# Altium footprint library a3.PcbLib: 56 footprints (part 2 of 4)
Each footprint in its own frame and in the unit in brackets; x right, y up, seen from the top. Pads: shape width x height; smd on the part's side, far side on the other; paste and mask are expansions set on the pad; w line width, h text height; cw(c..) or ccw(c..) is an arc to the next point about the centre after c.
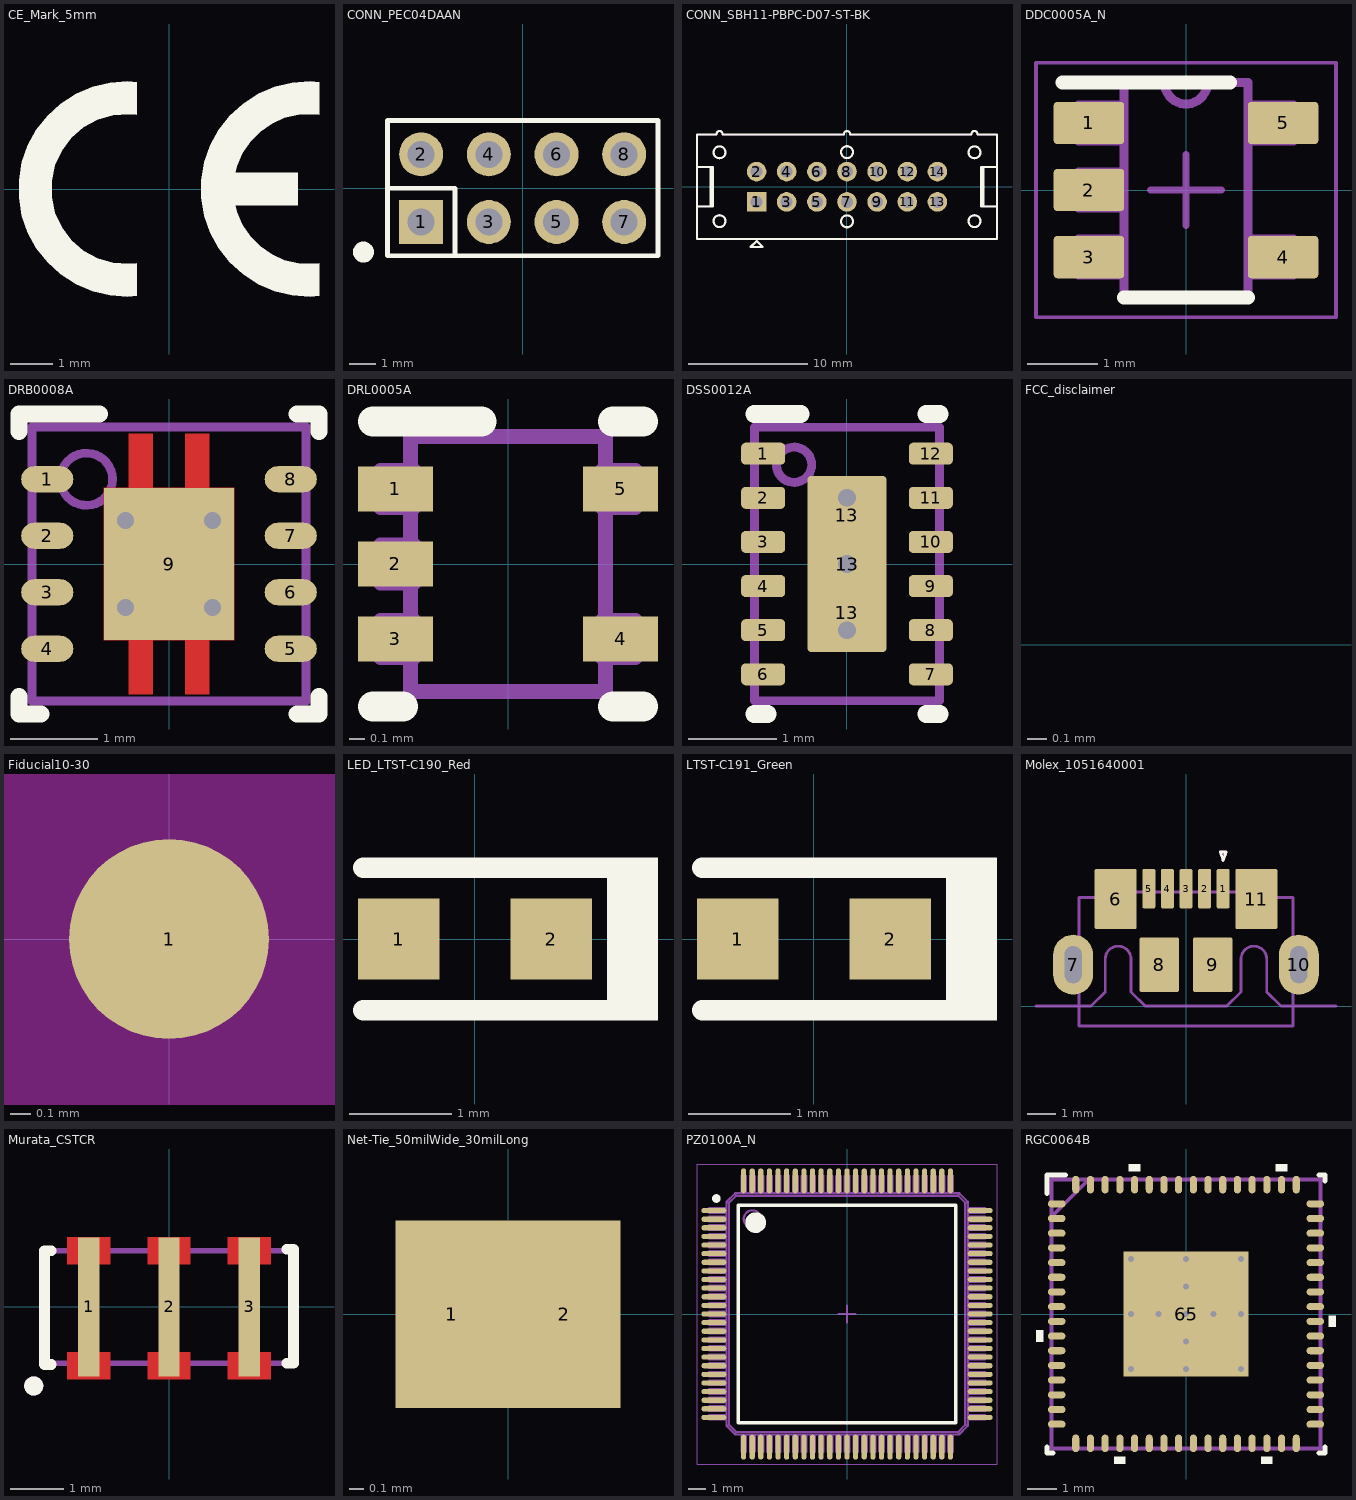
[diagram p1: the footprints below, top view; thin cyan lines are the x and y axes]

## CE_Mark_5mm [mm] "Minimum text height for CE Mark"
height 1
Top Overlay:
  region: -0.75,-2.487 -0.958,-2.508 -1.376,-2.48 -1.783,-2.383 -2.169,-2.22 -2.522,-1.994 -2.832,-1.714 -3.092,-1.385 -3.293,-1.018 -3.43,-0.622 -3.5,-0.209 -3.5,0.209 -3.43,0.622 -3.293,1.018 -3.092,1.385 -2.832,1.714 -2.522,1.994 -2.169,2.22 -1.783,2.383 -1.376,2.48 -0.958,2.508 -0.75,2.487 -0.75,1.732 -0.937,1.749 -1.31,1.722 -1.669,1.617 -1.998,1.438 -2.281,1.193 -2.505,0.893 -2.66,0.553 -2.74,0.187 -2.74,-0.187 -2.66,-0.553 -2.505,-0.893 -2.281,-1.193 -1.998,-1.438 -1.669,-1.617 -1.31,-1.722 -0.937,-1.749 -0.75,-1.732
  region: 3.5,-1.732 3.337,-1.748 3.01,-1.733 2.691,-1.658 2.392,-1.525 2.123,-1.339 1.894,-1.106 1.712,-0.834 1.583,-0.533 1.541,-0.375 3,-0.375 3,0.375 1.541,0.375 1.583,0.533 1.712,0.834 1.894,1.106 2.123,1.339 2.392,1.525 2.691,1.658 3.01,1.733 3.337,1.748 3.5,1.732 3.5,2.487 3.292,2.508 2.874,2.48 2.467,2.383 2.081,2.22 1.728,1.994 1.418,1.714 1.158,1.385 0.957,1.018 0.82,0.622 0.75,0.209 0.75,-0.209 0.82,-0.622 0.957,-1.018 1.158,-1.385 1.418,-1.714 1.728,-1.994 2.081,-2.22 2.467,-2.383 2.874,-2.48 3.292,-2.508 3.5,-2.487

## CONN_PEC04DAAN [mm] "SULLINS"
height 8.382
pads (8):
  rect 1.65x1.65 hole 1.016 mask+0: 1(-3.81,-1.27)
  round 1.65 hole 1.016 mask+0: 2(-3.81,1.27) 3(-1.27,-1.27) 4(-1.27,1.27) 5(1.27,-1.27) 6(1.27,1.27) 7(3.81,-1.27) 8(3.81,1.27)
Top Overlay:
  circle w0.381: c-5.98,-2.4 r0.203
  lines w0.178: -5.08,0 -2.54,0 -2.54,-2.54 ; -5.08,-2.54 5.08,-2.54 5.08,2.54 -5.08,2.54 -5.08,-2.54
Mechanical 5:
  rectangle: -4.318,-1.778 -3.302,-0.762
  lines w0.076: -5.08,-2.54 5.08,-2.54 5.08,2.54 -5.08,2.54 -5.08,-2.54
  lines w0.127: -5.08,-2.54 -5.08,2.54 5.08,2.54 5.08,-2.54 -5.08,-2.54
  text ".Designator" at -1.778,-0.508 h1.02
3D body: height 2.54, standoff 0, extent -5.079,-2.539 5.079,2.539
3D body: height 8.38, standoff -3.05, extent -4.127,-1.587 -3.492,-0.952
3D body: height 8.38, standoff -3.05, extent -4.127,0.953 -3.492,1.588
3D body: height 8.38, standoff -3.05, extent -1.587,0.953 -0.952,1.588
3D body: height 8.38, standoff -3.05, extent -1.587,-1.587 -0.952,-0.952
3D body: height 8.38, standoff -3.05, extent 0.953,-1.587 1.588,-0.952
3D body: height 8.38, standoff -3.05, extent 0.953,0.953 1.588,1.588
3D body: height 8.38, standoff -3.05, extent 3.493,-1.587 4.128,-0.952
3D body: height 8.38, standoff -3.05, extent 3.493,0.953 4.128,1.588

## CONN_SBH11-PBPC-D07-ST-BK [mm] "Sullins recommended land pattern"
height 8.8
pads (14):
  rect 1.65x1.65 hole 1.016 mask+0: 1(-7.62,-1.27)
  round 1.65 hole 1.016 mask+0: 2(-7.62,1.27) 3(-5.08,-1.27) 4(-5.08,1.27) 5(-2.54,-1.27) 6(-2.54,1.27) 7(0,-1.27) 8(0,1.27) 9(2.54,-1.27) 10(2.54,1.27) 11(5.08,-1.27) 12(5.08,1.27) 13(7.62,-1.27) 14(7.62,1.27)
Top Overlay:
  lines w0.178: -11.49,-1.65 -11.49,1.65 ; 11.49,-1.65 11.49,1.65 ; -12.64,-1.65 -12.64,1.65 ; -12.64,-1.65 -12.64,-4.4 12.64,-4.4 12.64,-1.65 ; -12.64,-1.65 -11.313,-1.65 -11.313,1.65 -12.64,1.65 ; -12.64,1.65 -12.64,4.4 -10.99,4.4 -10.99,4.45 cw(c-10.74,4.45) -10.49,4.45 -10.49,4.4 -0.25,4.4 -0.25,4.45 cw(c0,4.45) 0.25,4.45 0.25,4.4 10.49,4.4 10.49,4.45 cw(c10.74,4.45) 10.99,4.45 10.99,4.4 12.64,4.4 12.64,1.65 ; 12.64,-1.65 12.64,1.65 ; 12.64,-1.65 11.314,-1.65 11.314,1.65 12.64,1.65 ; -10.74,-3.4 ccw(c-10.74,-2.9) -10.74,-2.4 ccw(c-10.74,-2.9) -10.74,-3.4 ; -10.74,2.4 ccw(c-10.74,2.9) -10.74,3.4 ccw(c-10.74,2.9) -10.74,2.4 ; -8.128,-5.08 -7.62,-4.572 -7.112,-5.08 -8.128,-5.08 ; 0,-3.417 ccw(c0,-2.917) 0,-2.417 ccw(c0,-2.917) 0,-3.417 ; 0,2.417 ccw(c0,2.917) 0,3.417 ccw(c0,2.917) 0,2.417 ; 10.74,-3.4 ccw(c10.74,-2.9) 10.74,-2.4 ccw(c10.74,-2.9) 10.74,-3.4 ; 10.74,2.4 ccw(c10.74,2.9) 10.74,3.4 ccw(c10.74,2.9) 10.74,2.4
Mechanical 5:
  lines w0.127: -11.49,-1.65 -11.49,1.65 ; 11.49,-1.65 11.49,1.65 ; -12.64,-1.65 -11.313,-1.65 -11.313,1.65 -12.64,1.65 ; -12.64,-1.65 -12.64,-4.4 12.64,-4.4 12.64,-1.65 ; -12.64,-1.65 -12.64,1.65 ; -12.64,1.65 -12.64,4.4 -10.99,4.4 -10.99,4.45 cw(c-10.74,4.45) -10.49,4.45 -10.49,4.4 -0.25,4.4 -0.25,4.45 cw(c0,4.45) 0.25,4.45 0.25,4.4 10.49,4.4 10.49,4.45 cw(c10.74,4.45) 10.99,4.45 10.99,4.4 12.64,4.4 12.64,1.65 ; 12.64,-1.65 11.314,-1.65 11.314,1.65 12.64,1.65 ; 12.64,-1.65 12.64,1.65 ; -10.74,-3.4 cw(c-10.74,-2.9) -10.74,-2.4 cw(c-10.74,-2.9) -10.74,-3.4 ; -10.74,2.4 cw(c-10.74,2.9) -10.74,3.4 cw(c-10.74,2.9) -10.74,2.4 ; -8.128,-5.08 -7.112,-5.08 -7.62,-4.572 -8.128,-5.08 ; 0,-3.417 cw(c0,-2.917) 0,-2.417 cw(c0,-2.917) 0,-3.417 ; 0,2.417 cw(c0,2.917) 0,3.417 cw(c0,2.917) 0,2.417 ; 10.74,-3.4 cw(c10.74,-2.9) 10.74,-2.4 cw(c10.74,-2.9) 10.74,-3.4 ; 10.74,2.4 cw(c10.74,2.9) 10.74,3.4 cw(c10.74,2.9) 10.74,2.4
  text ".Designator" at -1.27,-0.127 h0.64
3D body "11091, SBH11-PBPC-D07-ST-BK.stp": height 9.12, standoff -2.68, extent -12.64,-4.4 12.64,4.7

## DDC0005A_N [mm]
height 1.1
pads (5):
  rrect17% 1x0.6 smd: 1(-1.375,0.95) 2(-1.375,0) 3(-1.375,-0.95) 4(1.375,-0.95) 5(1.375,0.95)
Top Overlay:
  lines w0.2: -1.75,1.525 0.625,1.525 ; -0.876,-1.524 0.876,-1.524
Mechanical 5:
  lines w0.127: -0.305,1.524 ccw(c0,1.524) 0.305,1.524 ; -1.524,-1.204 -0.876,-1.204 -0.876,-0.696 -1.524,-0.696 -1.524,-1.204 ; -1.524,-0.254 -0.876,-0.254 -0.876,0.254 -1.524,0.254 -1.524,-0.254 ; -1.524,0.696 -0.876,0.696 -0.876,1.204 -1.524,1.204 -1.524,0.696 ; -0.876,-1.524 -0.876,1.524 0.876,1.524 0.876,-1.524 -0.876,-1.524 ; 0.876,-1.204 1.524,-1.204 1.524,-0.696 0.876,-0.696 0.876,-1.204 ; 0.876,0.696 1.524,0.696 1.524,1.204 0.876,1.204 0.876,0.696
  text ".Designator" at 0,0.262 h0.64
Mechanical 15:
  lines w0.05: -2.125,-1.8 -2.125,1.8 2.125,1.8 2.125,-1.8 -2.125,-1.8
  lines w0.1: -0.5,0 0.5,0 ; 0,-0.5 0,0.5
3D body "DDC0005A.stp": height 1.1, standoff 0, extent -1.405,-1.45 1.406,1.45

## DRB0008A [mm] "SON, 8-Leads, Body 3x3mm, Pitch 0.65mm, Thermal Pad 1.75x1.5mm, TI Recommended"
height 1
pads (9):
  oval 0.6x0.3 smd: 1(-1.4,0.975) 2(-1.4,0.325) 3(-1.4,-0.325) 4(-1.4,-0.975) 5(1.4,-0.975) 6(1.4,-0.325) 7(1.4,0.325) 8(1.4,0.975)
  rect 1.5x1.75 smd paste-0.75: 9(0,0)
via 0.5,-0.5 diameter 0.5 hole 0.2
via -0.5,-0.5 diameter 0.5 hole 0.2
via -0.5,0.5 diameter 0.5 hole 0.2
via 0.5,0.5 diameter 0.5 hole 0.2
Top Layer:
  region: -0.465,-1.5 -0.465,-0.875 -0.75,-0.875 -0.75,0.875 -0.465,0.875 -0.465,1.5 -0.185,1.5 -0.185,0.875 0.185,0.875 0.185,1.5 0.465,1.5 0.465,0.875 0.75,0.875 0.75,-0.875 0.465,-0.875 0.465,-1.5 0.185,-1.5 0.185,-0.875 -0.185,-0.875 -0.185,-1.5
Top Overlay:
  lines w0.2: -1.725,-1.525 -1.725,-1.725 -1.475,-1.725 ; -1.725,1.525 -1.725,1.725 -0.8,1.725 ; 1.475,-1.725 1.725,-1.725 1.725,-1.525 ; 1.475,1.725 1.725,1.725 1.725,1.525
Top Paste:
  rectangle: -0.691,-0.792 0.692,0.793
Mechanical 5:
  circle w0.1: c-0.95,0.975 r0.3
  lines w0.1: -1.575,-1.575 1.575,-1.575 1.575,1.575 -1.575,1.575 -1.575,-1.575
  text ".Designator" at -0.889,-0.508 h0.51
3D body: height 1, standoff 0, extent -1.575,-1.575 1.575,1.575
3D body: height 1.01, standoff 0.8, extent -1.249,0.676 -0.651,1.274

## DRL0005A [mm] "SOTFL, 5-Flat Leads, Body 1.2x1.6x0.6mm, Pitch 0.5mm, TI recommended"
height 0.6
pads (5):
  rect 0.5x0.3 smd: 1(-0.75,0.5) 2(-0.75,0) 3(-0.75,-0.5) 4(0.75,-0.5) 5(0.75,0.5)
Top Overlay:
  lines w0.2: -0.9,-0.95 -0.7,-0.95 ; -0.9,0.95 -0.175,0.95 ; 0.7,-0.95 0.9,-0.95 ; 0.7,0.95 0.9,0.95
Mechanical 5:
  lines w0.1: -0.65,-0.625 -0.65,-0.85 0.65,-0.85 0.65,-0.625 ; -0.65,-0.375 -0.65,-0.125 ; -0.65,0.125 -0.65,0.375 ; -0.65,0.625 -0.65,0.85 0.65,0.85 0.65,0.625 ; 0.65,-0.375 0.65,0.375 ; -0.85,-0.625 -0.627,-0.625 -0.627,-0.375 -0.85,-0.375 -0.85,-0.625 ; -0.85,-0.125 -0.85,0.125 -0.627,0.125 -0.627,-0.125 -0.85,-0.125 ; -0.85,0.375 -0.627,0.375 -0.627,0.625 -0.85,0.625 -0.85,0.375 ; 0.627,-0.625 0.85,-0.625 0.85,-0.375 0.627,-0.375 0.627,-0.625 ; 0.627,0.375 0.85,0.375 0.85,0.625 0.627,0.625 0.627,0.375
  text ".Designator" at 0.254,-0.85 h0.38
3D body "DRL0005A.stp": height 0.62, standoff 0.02, extent -0.85,-0.85 0.85,0.85

## DSS0012A [mm] "SON, 12-Leads, Body 2x3mm, Pitch 0.5mm, Thermal Pad 2x0.9mm, TI Recommended"
height 0.8
pads (15):
  rrect40% 0.5x0.25 smd: 1(-0.95,1.25) 2(-0.95,0.75) 3(-0.95,0.25) 4(-0.95,-0.25) 5(-0.95,-0.75) 6(-0.95,-1.25) 7(0.95,-1.25) 8(0.95,-0.75) 9(0.95,-0.25) 10(0.95,0.25) 11(0.95,0.75) 12(0.95,1.25)
  rrect50% 0.9x0.9 on Top Paste: 13(0,-0.55) 13(0,0.55)
  rrect11% 0.9x2 smd paste-0.45: 13(0,0)
via 0,0 diameter 0.5 hole 0.2
via 0,0.75 diameter 0.5 hole 0.2
via 0,-0.75 diameter 0.5 hole 0.2
Top Overlay:
  lines w0.2: -1.05,-1.7 -0.9,-1.7 ; -1.05,1.7 -0.525,1.7 ; 0.9,-1.7 1.05,-1.7 ; 0.9,1.7 1.05,1.7
Mechanical 5:
  circle w0.1: c-0.6,1.125 r0.2
  lines w0.1: -1.05,-1.55 1.05,-1.55 1.05,1.55 -1.05,1.55 -1.05,-1.55
  text ".Designator" at 0.381,0.254 h0.64
3D body "DSS0012A.stp": height 0.8, standoff 0, extent -1,-1.5 1,1.5

## FCC_disclaimer [mm]
Top Overlay:
  text "For evaluation only; not FCC approved for resale." at -15.928,-0.353 h1.52

## Fiducial10-30 [mm]
height 1
pads (1):
  round 1 smd mask+1: 1(0,0)
Top Layer keep-out:
  circle w1.678: c0,0 r0.75

## LED_LTST-C190_Red [mm] "Lite-On"
height 0.9
pads (2):
  rect 0.8x0.8 smd: 1(-0.75,0) 2(0.75,0)
Top Overlay:
  region: 1.8,0.8 1.3,0.8 1.3,-0.8 1.8,-0.8
  lines w0.2: -1.1,-0.7 1.4,-0.7 ; -1.1,0.7 1.4,0.7
Mechanical 5:
  region: 1.8,0.75 1.3,0.75 1.3,-0.75 1.8,-0.75
  lines w0.1: -1.1,-0.7 1.4,-0.7 ; -1.1,0.7 1.4,0.7
  text ".Designator" at 0.635,0.121 h0.64
3D body "Lite-On_LTST_C190_red.stp": height 0.9, standoff 0, extent -0.85,-0.45 0.85,0.45

## LTST-C191_Green [mm] "Lite-On"
height 0.65
pads (2):
  rect 0.8x0.8 smd: 1(-0.75,0) 2(0.75,0)
Top Overlay:
  region: 1.8,0.8 1.3,0.8 1.3,-0.8 1.8,-0.8
  lines w0.2: -1.1,-0.7 1.4,-0.7 ; -1.1,0.7 1.4,0.7
Mechanical 5:
  region: 1.8,0.75 1.3,0.75 1.3,-0.75 1.8,-0.75
  lines w0.1: -1.1,-0.7 1.4,-0.7 ; -1.1,0.7 1.4,0.7
  text ".Designator" at 0.635,0.248 h0.64
3D body: height 0.2, standoff 0, extent -0.849,-0.449 0.849,0.449
3D body: height 0.65, standoff 0.2, extent -0.624,-0.449 0.624,0.449

## Molex_1051640001 [mm] "Receptacle, USB 2.0, Micro B, 5 Pos, 0.65mm Pitch, R/A, SMT"
height 2.7
pads (11):
  rrect22% 0.45x1.38 smd: 1(1.3,4.11) 2(0.65,4.11) 3(0,4.11) 4(-0.65,4.11) 5(-1.3,4.11)
  rrect7% 1.475x2.1 smd: 6(-2.462,3.75) 11(2.462,3.75)
  rrect100% 1.4x2.1 hole 0.6 slot 1.3 at 90 deg: 7(-3.95,1.45) 10(3.95,1.45)
  rrect7% 1.375x1.9 smd: 8(-0.937,1.45) 9(0.937,1.45)
Top Overlay:
  lines w0.1: 1.2,5.4 1.4,5.4 1.3,5.1 1.2,5.4
Mechanical 1:
  lines w0.1: -5.25,0 -3.325,0 -2.825,0.5 -2.825,1.65 cw(c-2.375,1.65) -1.925,1.65 -1.925,0.5 -1.425,0 -1.4,0 1.4,0 1.425,0 1.925,0.5 1.925,1.65 cw(c2.375,1.65) 2.825,1.65 2.825,0.5 3.325,0 5.25,0
Mechanical 5:
  lines w0.1: -3.75,1 -3.871,1 -4.1,1 -4.1,1.9 -3.871,1.9 -3.75,1.9 ; -1.425,4 -1.425,4.467 -1.175,4.467 -1.175,4 ; -0.775,4 -0.775,4.467 -0.525,4.467 -0.525,4 ; -0.125,4 -0.125,4.467 0.125,4.467 0.125,4 ; 0.525,4 0.525,4.467 0.775,4.467 0.775,4 ; 1.175,4 1.175,4.467 1.425,4.467 1.425,4 ; 3.75,1 3.871,1 4.1,1 4.1,1.9 3.871,1.9 3.75,1.9 ; -3.75,-0.7 -3.75,3.8 -3.633,3.8 -3.089,3.8 -3,3.8 -3,4 -2.806,4 2.806,4 3,4 3,3.8 3.089,3.8 3.633,3.8 3.75,3.8 3.75,-0.7 3.633,-0.7 3.089,-0.7 2.806,-0.7 -2.806,-0.7 -3.089,-0.7 -3.633,-0.7 -3.75,-0.7 ; 1.2,5.4 1.3,5.1 1.4,5.4 1.2,5.4
  text ".Designator" at -3.2,2.3 h1.85
3D body "1051640001.stp": height 2.45, standoff -0.8, extent -4.1,-0.7 4.1,4.467

## Murata_CSTCR [mm] "Murata"
height 1.2
pads (3):
  rect 0.4x2.6 smd mask+0.051: 1(-1.5,0) 2(0,0) 3(1.5,0)
Top Layer:
  region: -0.4,0.8 0.4,0.8 0.4,1.3 -0.4,1.3
  region: -0.4,-1.35 -0.4,-0.85 0.4,-0.85 0.4,-1.35
  region: -0.4,-1.35 -0.4,-0.85 0.4,-0.85 0.4,-1.35
  region: -1.9,0.8 -1.1,0.8 -1.1,1.3 -1.9,1.3
  region: -1.9,-1.35 -1.9,-0.85 -1.1,-0.85 -1.1,-1.35
  region: -1.9,-1.35 -1.9,-0.85 -1.1,-0.85 -1.1,-1.35
  region: 1.1,0.8 1.9,0.8 1.9,1.3 1.1,1.3
  region: 1.1,-1.35 1.1,-0.85 1.9,-0.85 1.9,-1.35
  region: 1.1,-1.35 1.1,-0.85 1.9,-0.85 1.9,-1.35
Top Overlay:
  circle w0.178: c-2.525,-1.475 r0.089
  lines w0.2: -2.2,-1.075 -2.325,-1.075 -2.325,1.05 -2.2,1.05 ; 2.2,-1.05 2.325,-1.05 2.325,1.075 2.2,1.075
Mechanical 5:
  circle w0.178: c-2.525,-1.475 r0.089
  lines w0.1: -2.3,-1.05 -2.3,1.05 2.3,1.05 2.3,-1.05 -2.3,-1.05
  text ".Designator" at 1.016,0.127 h0.51
3D body: height 0.6, standoff 0, extent -2.299,-1.049 2.299,1.051
3D body: height 1.2, standoff 0.6, extent -2,-0.875 2,0.875

## Net-Tie_50milWide_30milLong [mil] "50mil net tie, no solder mask opening, no solder paste"
pads (2):
  rect 30x50 smd paste-20 mask-20: 1(-15,0) 2(15,0)

## PZ0100A_N [mm] "TSQFP, 100-Leads, Body 16.2x16.2mm (max), Pitch 0.50mm, IPC Medium Density"
height 1.6
pads (100):
  oval 1.45x0.3 smd: 1(-7.725,6) 2(-7.725,5.5) 3(-7.725,5) 4(-7.725,4.5) 5(-7.725,4) 6(-7.725,3.5) 7(-7.725,3) 8(-7.725,2.5) 9(-7.725,2) 10(-7.725,1.5) 11(-7.725,1) 12(-7.725,0.5) 13(-7.725,0) 14(-7.725,-0.5) 15(-7.725,-1) 16(-7.725,-1.5) 17(-7.725,-2) 18(-7.725,-2.5) 19(-7.725,-3) 20(-7.725,-3.5) 21(-7.725,-4) 22(-7.725,-4.5) 23(-7.725,-5) 24(-7.725,-5.5) 25(-7.725,-6) 51(7.725,-6) 52(7.725,-5.5) 53(7.725,-5) 54(7.725,-4.5) 55(7.725,-4) 56(7.725,-3.5) 57(7.725,-3) 58(7.725,-2.5) 59(7.725,-2) 60(7.725,-1.5) 61(7.725,-1) 62(7.725,-0.5) 63(7.725,0) 64(7.725,0.5) 65(7.725,1) 66(7.725,1.5) 67(7.725,2) 68(7.725,2.5) 69(7.725,3) 70(7.725,3.5) 71(7.725,4) 72(7.725,4.5) 73(7.725,5) 74(7.725,5.5) 75(7.725,6)
  oval 0.3x1.45 smd: 26(-6,-7.725) 27(-5.5,-7.725) 28(-5,-7.725) 29(-4.5,-7.725) 30(-4,-7.725) 31(-3.5,-7.725) 32(-3,-7.725) 33(-2.5,-7.725) 34(-2,-7.725) 35(-1.5,-7.725) 36(-1,-7.725) 37(-0.5,-7.725) 38(0,-7.725) 39(0.5,-7.725) 40(1,-7.725) 41(1.5,-7.725) 42(2,-7.725) 43(2.5,-7.725) 44(3,-7.725) 45(3.5,-7.725) 46(4,-7.725) 47(4.5,-7.725) 48(5,-7.725) 49(5.5,-7.725) 50(6,-7.725) 76(6,7.725) 77(5.5,7.725) 78(5,7.725) 79(4.5,7.725) 80(4,7.725) 81(3.5,7.725) 82(3,7.725) 83(2.5,7.725) 84(2,7.725) 85(1.5,7.725) 86(1,7.725) 87(0.5,7.725) 88(0,7.725) 89(-0.5,7.725) 90(-1,7.725) 91(-1.5,7.725) 92(-2,7.725) 93(-2.5,7.725) 94(-3,7.725) 95(-3.5,7.725) 96(-4,7.725) 97(-4.5,7.725) 98(-5,7.725) 99(-5.5,7.725) 100(-6,7.725)
Top Overlay:
  circle w0.25: c-7.575,6.7 r0.125
  circle w0.6: c-5.3,5.3 r0.3
  lines w0.2: -6.3,-6.3 -6.3,6.3 6.3,6.3 6.3,-6.3 -6.3,-6.3
Mechanical 5:
  drawing of 1326 lines, arcs and shapes, not listed
  text ".Designator" at -1.8,-0.4 h1
Mechanical 15:
  lines w0.05: -8.7,-8.7 8.7,-8.7 8.7,8.7 -8.7,8.7 -8.7,-8.7
  lines w0.1: -0.5,0 0.5,0 ; 0,-0.5 0,0.5
3D body "PZ0100A.stp": height 1.6, standoff -0.13, extent -8.007,-8.007 8.007,8.007

## RGC0064B [mm]
height 1
pads (65):
  oval 0.6x0.24 smd mask+0.07: 1(-4.4,3.75) 2(-4.4,3.25) 3(-4.4,2.75) 4(-4.4,2.25) 5(-4.4,1.75) 6(-4.4,1.25) 7(-4.4,0.75) 8(-4.4,0.25) 9(-4.4,-0.25) 10(-4.4,-0.75) 11(-4.4,-1.25) 12(-4.4,-1.75) 13(-4.4,-2.25) 14(-4.4,-2.75) 15(-4.4,-3.25) 16(-4.4,-3.75) 33(4.4,-3.75) 34(4.4,-3.25) 35(4.4,-2.75) 36(4.4,-2.25) 37(4.4,-1.75) 38(4.4,-1.25) 39(4.4,-0.75) 40(4.4,-0.25) 41(4.4,0.25) 42(4.4,0.75) 43(4.4,1.25) 44(4.4,1.75) 45(4.4,2.25) 46(4.4,2.75) 47(4.4,3.25) 48(4.4,3.75)
  oval 0.24x0.6 smd mask+0.07: 17(-3.751,-4.4) 18(-3.251,-4.4) 19(-2.751,-4.4) 20(-2.251,-4.4) 21(-1.75,-4.4) 22(-1.25,-4.4) 23(-0.75,-4.4) 24(-0.25,-4.4) 25(0.25,-4.4) 26(0.75,-4.4) 27(1.25,-4.4) 28(1.75,-4.4) 29(2.251,-4.4) 30(2.751,-4.4) 31(3.251,-4.4) 32(3.751,-4.4) 49(3.751,4.4) 50(3.251,4.4) 51(2.751,4.4) 52(2.251,4.4) 53(1.75,4.4) 54(1.25,4.4) 55(0.75,4.4) 56(0.25,4.4) 57(-0.25,4.4) 58(-0.75,4.4) 59(-1.25,4.4) 60(-1.75,4.4) 61(-2.251,4.4) 62(-2.751,4.4) 63(-3.251,4.4) 64(-3.751,4.4)
  rect 4.25x4.25 smd paste-2.112: 65(0,0)
via 1.875,-1.875 diameter 0.5 hole 0.2
via 0,-1.875 diameter 0.5 hole 0.2
via -1.875,-1.875 diameter 0.5 hole 0.2
via 0,-0.937 diameter 0.5 hole 0.2
via 1.875,0 diameter 0.5 hole 0.2
via 0.937,0 diameter 0.5 hole 0.2
via 0,0 diameter 0.5 hole 0.2
via -0.937,0 diameter 0.5 hole 0.2
via -1.875,0 diameter 0.5 hole 0.2
via 0,0.937 diameter 0.5 hole 0.2
via 1.875,1.875 diameter 0.5 hole 0.2
via 0,1.875 diameter 0.5 hole 0.2
via -1.875,1.875 diameter 0.5 hole 0.2
Top Overlay:
  region: -1.56,4.849 -1.941,4.849 -1.941,5.103 -1.56,5.103
  region: 3.441,4.849 3.06,4.849 3.06,5.103 3.441,5.103
  region: 4.849,-0.059 5.103,-0.059 5.103,-0.44 4.849,-0.44
  region: 2.941,-4.849 2.56,-4.849 2.56,-5.103 2.941,-5.103
  region: -2.06,-4.849 -2.441,-4.849 -2.441,-5.103 -2.06,-5.103
  region: -4.849,-0.56 -5.103,-0.56 -5.103,-0.941 -4.849,-0.941
  lines w0.178: -4.725,-4.525 -4.725,-4.725 -4.525,-4.725 ; -4.725,4.096 -4.725,4.725 -4.097,4.725 ; 4.525,-4.725 4.725,-4.725 4.725,-4.525 ; 4.525,4.725 4.725,4.725 4.725,4.525
Top Paste:
  rectangle: 0.1,0.1 1.888,1.888
  region: -0.1,1.888 -1.888,1.888 -1.888,0.1 -0.1,0.1
  region: -0.1,-0.1 -1.888,-0.1 -1.888,-1.888 -0.1,-1.888
  rectangle: 0.1,-1.888 1.888,-0.1
Mechanical 5:
  lines w0.127: -4.575,3.305 -3.305,4.575 ; -4.575,-4.575 -4.575,4.575 4.575,4.575 4.575,-4.575 -4.575,-4.575 ; -4.575,-3.9 -4.575,-3.6 -4.575,-3.9 ; -4.575,-3.4 -4.575,-3.1 -4.575,-3.4 ; -4.575,-2.9 -4.575,-2.6 -4.575,-2.9 ; -4.575,-2.4 -4.575,-2.1 -4.575,-2.4 ; -4.575,-1.9 -4.575,-1.6 -4.575,-1.9 ; -4.575,-1.4 -4.575,-1.1 -4.575,-1.4 ; -4.575,-0.9 -4.575,-0.6 -4.575,-0.9 ; -4.575,-0.4 -4.575,-0.1 -4.575,-0.4 ; -4.575,0.1 -4.575,0.4 -4.575,0.1 ; -4.575,0.6 -4.575,0.9 -4.575,0.6 ; -4.575,1.1 -4.575,1.4 -4.575,1.1 ; -4.575,1.6 -4.575,1.9 -4.575,1.6 ; -4.575,2.1 -4.575,2.4 -4.575,2.1 ; -4.575,2.6 -4.575,2.9 -4.575,2.6 ; -4.575,3.1 -4.575,3.4 -4.575,3.1 ; -4.575,3.6 -4.575,3.9 -4.575,3.6 ; -3.9,-4.575 -3.6,-4.575 -3.9,-4.575 ; -3.9,4.575 -3.6,4.575 -3.9,4.575 ; -3.4,-4.575 -3.1,-4.575 -3.4,-4.575 ; -3.4,4.575 -3.1,4.575 -3.4,4.575 ; -2.9,-4.575 -2.6,-4.575 -2.9,-4.575 ; -2.9,4.575 -2.6,4.575 -2.9,4.575 ; -2.4,-4.575 -2.1,-4.575 -2.4,-4.575 ; -2.4,4.575 -2.1,4.575 -2.4,4.575 ; -1.9,-4.575 -1.6,-4.575 -1.9,-4.575 ; -1.9,4.575 -1.6,4.575 -1.9,4.575 ; -1.4,-4.575 -1.1,-4.575 -1.4,-4.575 ; -1.4,4.575 -1.1,4.575 -1.4,4.575 ; -0.9,-4.575 -0.6,-4.575 -0.9,-4.575 ; -0.9,4.575 -0.6,4.575 -0.9,4.575 ; -0.4,-4.575 -0.1,-4.575 -0.4,-4.575 ; -0.4,4.575 -0.1,4.575 -0.4,4.575 ; 0.1,-4.575 0.4,-4.575 0.1,-4.575 ; 0.1,4.575 0.4,4.575 0.1,4.575 ; 0.6,-4.575 0.9,-4.575 0.6,-4.575 ; 0.6,4.575 0.9,4.575 0.6,4.575 ; 1.1,-4.575 1.4,-4.575 1.1,-4.575 ; 1.1,4.575 1.4,4.575 1.1,4.575 ; 1.6,-4.575 1.9,-4.575 1.6,-4.575 ; 1.6,4.575 1.9,4.575 1.6,4.575 ; 2.1,-4.575 2.4,-4.575 2.1,-4.575 ; 2.1,4.575 2.4,4.575 2.1,4.575 ; 2.6,-4.575 2.9,-4.575 2.6,-4.575 ; 2.6,4.575 2.9,4.575 2.6,4.575 ; 3.1,-4.575 3.4,-4.575 3.1,-4.575 ; 3.1,4.575 3.4,4.575 3.1,4.575 ; 3.6,-4.575 3.9,-4.575 3.6,-4.575 ; 3.6,4.575 3.9,4.575 3.6,4.575 ; 4.575,-3.9 4.575,-3.6 4.575,-3.9 ; 4.575,-3.4 4.575,-3.1 4.575,-3.4 ; 4.575,-2.9 4.575,-2.6 4.575,-2.9 ; 4.575,-2.4 4.575,-2.1 4.575,-2.4 ; 4.575,-1.9 4.575,-1.6 4.575,-1.9 ; 4.575,-1.4 4.575,-1.1 4.575,-1.4 ; 4.575,-0.9 4.575,-0.6 4.575,-0.9 ; 4.575,-0.4 4.575,-0.1 4.575,-0.4 ; 4.575,0.1 4.575,0.4 4.575,0.1 ; 4.575,0.6 4.575,0.9 4.575,0.6 ; 4.575,1.1 4.575,1.4 4.575,1.1 ; 4.575,1.6 4.575,1.9 4.575,1.6 ; 4.575,2.1 4.575,2.4 4.575,2.1 ; 4.575,2.6 4.575,2.9 4.575,2.6 ; 4.575,3.1 4.575,3.4 4.575,3.1 ; 4.575,3.6 4.575,3.9 4.575,3.6
  text ".Designator" at 0.762,1.016 h0.64
3D body: height 1, standoff 0, extent -4.574,-4.574 4.574,4.574
3D body: height 1.01, standoff 1, extent -3.868,3.117 -3.092,3.893